# Altium schematic symbol library WE-LQS.SchLib: 214 symbols (part 1 of 4)
Pins are listed as number, name and electrical type; pins without a type are passive.

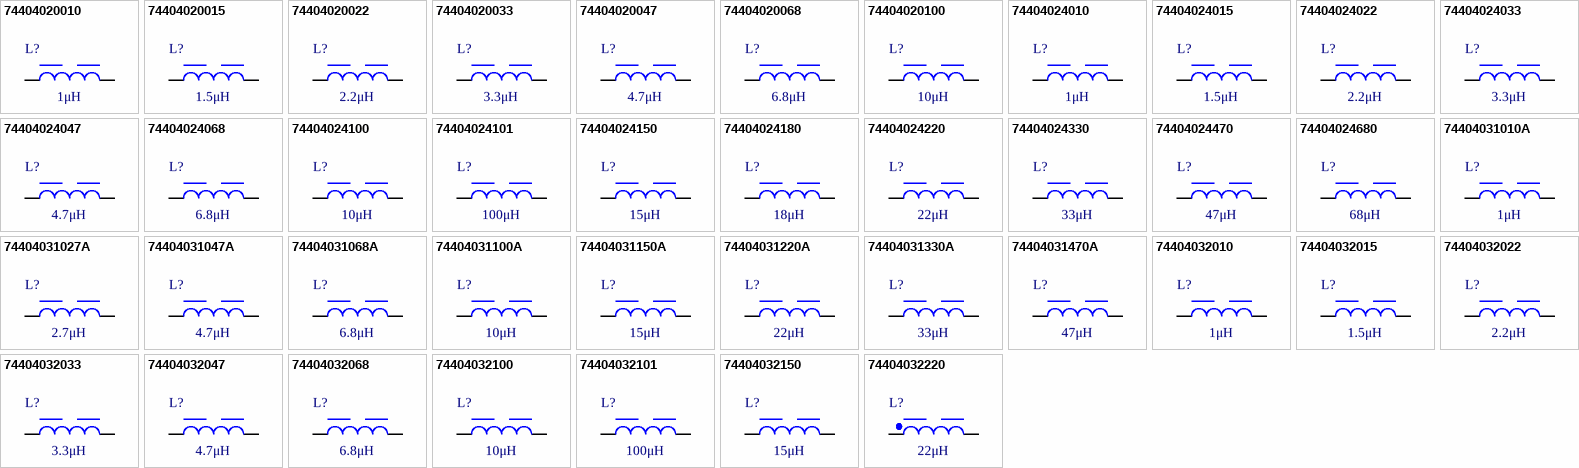
[diagram p0: symbols 74404020010 to 74404032220]

## 74404020010
designator L?, comment 1μH
WE-LQS SMT Power Inductor, size 2010, 1μH, 0.094Ω; Manufacturer Part Number: 74404020010; Manufacturer: Wurth Elektronik; Case/Size Code: 2010; Rated Current: 1.5A; Saturation Current: 2A; Self Resonant Frequency: 177MHz; Category: Power Inductors; Match Code: WE-LQS; ComponentLink1Description: Website Link; ComponentLink1URL: https://www.we-online.com/redexpert/article/74404020010?ad; ComponentLink2Description: Datasheet Link; ComponentLink2URL: https://www.we-online.com/redexpert/spec/74404020010?ad; Mount: Surface Mount; Min Operating Temperature: -40°C; Max Operating Temperature: 125°C; Packaging: Tape and Reel; Length: 2mm; Width: 1.6mm; Height: 1mm; DC Resistance: 0.094Ω; Inductance: 1μH
footprint WE-LQS_2010
simulation model 2010_74404020010_1u
pins: 1, 2

## 74404020015
designator L?, comment 1.5μH
WE-LQS SMT Power Inductor, size 2010, 1.5μH, 0.147Ω; Manufacturer Part Number: 74404020015; Manufacturer: Wurth Elektronik; Case/Size Code: 2010; Rated Current: 1.2A; Saturation Current: 1.6A; Self Resonant Frequency: 130MHz; Category: Power Inductors; Match Code: WE-LQS; ComponentLink1Description: Website Link; ComponentLink1URL: https://www.we-online.com/redexpert/article/74404020015?ad; ComponentLink2Description: Datasheet Link; ComponentLink2URL: https://www.we-online.com/redexpert/spec/74404020015?ad; Mount: Surface Mount; Min Operating Temperature: -40°C; Max Operating Temperature: 125°C; Packaging: Tape and Reel; Length: 2mm; Width: 1.6mm; Height: 1mm; DC Resistance: 0.147Ω; Inductance: 1.5μH
footprint WE-LQS_2010
simulation model 2010_74404020015_1.5u
pins: 1, 2

## 74404020022
designator L?, comment 2.2μH
WE-LQS SMT Power Inductor, size 2010, 2.2μH, 0.225Ω; Manufacturer Part Number: 74404020022; Manufacturer: Wurth Elektronik; Case/Size Code: 2010; Rated Current: 0.96A; Saturation Current: 1.4A; Self Resonant Frequency: 107MHz; Category: Power Inductors; Match Code: WE-LQS; ComponentLink1Description: Website Link; ComponentLink1URL: https://www.we-online.com/redexpert/article/74404020022?ad; ComponentLink2Description: Datasheet Link; ComponentLink2URL: https://www.we-online.com/redexpert/spec/74404020022?ad; Mount: Surface Mount; Min Operating Temperature: -40°C; Max Operating Temperature: 125°C; Packaging: Tape and Reel; Length: 2mm; Width: 1.6mm; Height: 1mm; DC Resistance: 0.225Ω; Inductance: 2.2μH
footprint WE-LQS_2010
simulation model 2010_74404020022_2.2u
pins: 1, 2

## 74404020033
designator L?, comment 3.3μH
WE-LQS SMT Power Inductor, size 2010, 3.3μH, 0.275Ω; Manufacturer Part Number: 74404020033; Manufacturer: Wurth Elektronik; Case/Size Code: 2010; Rated Current: 0.87A; Saturation Current: 1.1A; Self Resonant Frequency: 78MHz; Category: Power Inductors; Match Code: WE-LQS; ComponentLink1Description: Website Link; ComponentLink1URL: https://www.we-online.com/redexpert/article/74404020033?ad; ComponentLink2Description: Datasheet Link; ComponentLink2URL: https://www.we-online.com/redexpert/spec/74404020033?ad; Mount: Surface Mount; Min Operating Temperature: -40°C; Max Operating Temperature: 125°C; Packaging: Tape and Reel; Length: 2mm; Width: 1.6mm; Height: 1mm; DC Resistance: 0.275Ω; Inductance: 3.3μH
footprint WE-LQS_2010
simulation model 2010_74404020033_3.3u
pins: 1, 2

## 74404020047
designator L?, comment 4.7μH
WE-LQS SMT Power Inductor, size 2010, 4.7μH, 0.41Ω; Manufacturer Part Number: 74404020047; Manufacturer: Wurth Elektronik; Case/Size Code: 2010; Rated Current: 0.72A; Saturation Current: 0.85A; Self Resonant Frequency: 71MHz; Category: Power Inductors; Match Code: WE-LQS; ComponentLink1Description: Website Link; ComponentLink1URL: https://www.we-online.com/redexpert/article/74404020047?ad; ComponentLink2Description: Datasheet Link; ComponentLink2URL: https://www.we-online.com/redexpert/spec/74404020047?ad; Mount: Surface Mount; Min Operating Temperature: -40°C; Max Operating Temperature: 125°C; Packaging: Tape and Reel; Length: 2mm; Width: 1.6mm; Height: 1mm; DC Resistance: 0.41Ω; Inductance: 4.7μH
footprint WE-LQS_2010
simulation model 2010_74404020047_4.7u
pins: 1, 2

## 74404020068
designator L?, comment 6.8μH
WE-LQS SMT Power Inductor, size 2010, 6.8μH, 0.7Ω; Manufacturer Part Number: 74404020068; Manufacturer: Wurth Elektronik; Case/Size Code: 2010; Rated Current: 0.55A; Saturation Current: 0.75A; Self Resonant Frequency: 52MHz; Category: Power Inductors; Match Code: WE-LQS; ComponentLink1Description: Website Link; ComponentLink1URL: https://www.we-online.com/redexpert/article/74404020068?ad; ComponentLink2Description: Datasheet Link; ComponentLink2URL: https://www.we-online.com/redexpert/spec/74404020068?ad; Mount: Surface Mount; Min Operating Temperature: -40°C; Max Operating Temperature: 125°C; Packaging: Tape and Reel; Length: 2mm; Width: 1.6mm; Height: 1mm; DC Resistance: 0.7Ω; Inductance: 6.8μH
footprint WE-LQS_2010
simulation model 2010_74404020068_6.8u
pins: 1, 2

## 74404020100
designator L?, comment 10μH
WE-LQS SMT Power Inductor, size 2010, 10μH, 0.86Ω; Manufacturer Part Number: 74404020100; Manufacturer: Wurth Elektronik; Case/Size Code: 2010; Rated Current: 0.5A; Saturation Current: 0.6A; Self Resonant Frequency: 39MHz; Category: Power Inductors; Match Code: WE-LQS; ComponentLink1Description: Website Link; ComponentLink1URL: https://www.we-online.com/redexpert/article/74404020100?ad; ComponentLink2Description: Datasheet Link; ComponentLink2URL: https://www.we-online.com/redexpert/spec/74404020100?ad; Mount: Surface Mount; Min Operating Temperature: -40°C; Max Operating Temperature: 125°C; Packaging: Tape and Reel; Length: 2mm; Width: 1.6mm; Height: 1mm; DC Resistance: 0.86Ω; Inductance: 10μH
footprint WE-LQS_2010
simulation model 2010_74404020100_10u
pins: 1, 2

## 74404024010
designator L?, comment 1μH
WE-LQS SMT Power Inductor, size 2512, 1μH, 0.036Ω; Manufacturer Part Number: 74404024010; Manufacturer: Wurth Elektronik; Case/Size Code: 2512; Rated Current: 2.3A; Saturation Current: 2.5A; Self Resonant Frequency: 159MHz; Category: Power Inductors; Match Code: WE-LQS; ComponentLink1Description: Website Link; ComponentLink1URL: https://www.we-online.com/redexpert/article/74404024010?ad; ComponentLink2Description: Datasheet Link; ComponentLink2URL: https://www.we-online.com/redexpert/spec/74404024010?ad; Mount: Surface Mount; Min Operating Temperature: -40°C; Max Operating Temperature: 125°C; Packaging: Tape and Reel; Length: 2.5mm; Width: 2mm; Height: 1.2mm; DC Resistance: 0.036Ω; Inductance: 1μH
footprint WE-LQS_2512
simulation model 2512_74404024010_1u
pins: 1, 2

## 74404024015
designator L?, comment 1.5μH
WE-LQS SMT Power Inductor, size 2512, 1.5μH, 0.065Ω; Manufacturer Part Number: 74404024015; Manufacturer: Wurth Elektronik; Case/Size Code: 2512; Rated Current: 1.8A; Saturation Current: 2.2A; Self Resonant Frequency: 104MHz; Category: Power Inductors; Match Code: WE-LQS; ComponentLink1Description: Website Link; ComponentLink1URL: https://www.we-online.com/redexpert/article/74404024015?ad; ComponentLink2Description: Datasheet Link; ComponentLink2URL: https://www.we-online.com/redexpert/spec/74404024015?ad; Mount: Surface Mount; Min Operating Temperature: -40°C; Max Operating Temperature: 125°C; Packaging: Tape and Reel; Length: 2.5mm; Width: 2mm; Height: 1.2mm; DC Resistance: 0.065Ω; Inductance: 1.5μH
footprint WE-LQS_2512
simulation model 2512_74404024015_1.5u
pins: 1, 2

## 74404024022
designator L?, comment 2.2μH
WE-LQS SMT Power Inductor, size 2512, 2.2μH, 0.08Ω; Manufacturer Part Number: 74404024022; Manufacturer: Wurth Elektronik; Case/Size Code: 2512; Rated Current: 1.65A; Saturation Current: 1.9A; Self Resonant Frequency: 83MHz; Category: Power Inductors; Match Code: WE-LQS; ComponentLink1Description: Website Link; ComponentLink1URL: https://www.we-online.com/redexpert/article/74404024022?ad; ComponentLink2Description: Datasheet Link; ComponentLink2URL: https://www.we-online.com/redexpert/spec/74404024022?ad; Mount: Surface Mount; Min Operating Temperature: -40°C; Max Operating Temperature: 125°C; Packaging: Tape and Reel; Length: 2.5mm; Width: 2mm; Height: 1.2mm; DC Resistance: 0.08Ω; Inductance: 2.2μH
footprint WE-LQS_2512
simulation model 2512_74404024022_2.2u
pins: 1, 2

## 74404024033
designator L?, comment 3.3μH
WE-LQS SMT Power Inductor, size 2512, 3.3μH, 0.12Ω; Manufacturer Part Number: 74404024033; Manufacturer: Wurth Elektronik; Case/Size Code: 2512; Rated Current: 1.35A; Saturation Current: 1.5A; Self Resonant Frequency: 66MHz; Category: Power Inductors; Match Code: WE-LQS; ComponentLink1Description: Website Link; ComponentLink1URL: https://www.we-online.com/redexpert/article/74404024033?ad; ComponentLink2Description: Datasheet Link; ComponentLink2URL: https://www.we-online.com/redexpert/spec/74404024033?ad; Mount: Surface Mount; Min Operating Temperature: -40°C; Max Operating Temperature: 125°C; Packaging: Tape and Reel; Length: 2.5mm; Width: 2mm; Height: 1.2mm; DC Resistance: 0.12Ω; Inductance: 3.3μH
footprint WE-LQS_2512
simulation model 2512_74404024033_3.3u
pins: 1, 2

## 74404024047
designator L?, comment 4.7μH
WE-LQS SMT Power Inductor, size 2512, 4.7μH, 0.173Ω; Manufacturer Part Number: 74404024047; Manufacturer: Wurth Elektronik; Case/Size Code: 2512; Rated Current: 1.12A; Saturation Current: 1.2A; Self Resonant Frequency: 52MHz; Category: Power Inductors; Match Code: WE-LQS; ComponentLink1Description: Website Link; ComponentLink1URL: https://www.we-online.com/redexpert/article/74404024047?ad; ComponentLink2Description: Datasheet Link; ComponentLink2URL: https://www.we-online.com/redexpert/spec/74404024047?ad; Mount: Surface Mount; Min Operating Temperature: -40°C; Max Operating Temperature: 125°C; Packaging: Tape and Reel; Length: 2.5mm; Width: 2mm; Height: 1.2mm; DC Resistance: 0.173Ω; Inductance: 4.7μH
footprint WE-LQS_2512
simulation model 2512_74404024047_4.7u
pins: 1, 2

## 74404024068
designator L?, comment 6.8μH
WE-LQS SMT Power Inductor, size 2512, 6.8μH, 0.3Ω; Manufacturer Part Number: 74404024068; Manufacturer: Wurth Elektronik; Case/Size Code: 2512; Rated Current: 0.85A; Saturation Current: 1A; Self Resonant Frequency: 40MHz; Category: Power Inductors; Match Code: WE-LQS; ComponentLink1Description: Website Link; ComponentLink1URL: https://www.we-online.com/redexpert/article/74404024068?ad; ComponentLink2Description: Datasheet Link; ComponentLink2URL: https://www.we-online.com/redexpert/spec/74404024068?ad; Mount: Surface Mount; Min Operating Temperature: -40°C; Max Operating Temperature: 125°C; Packaging: Tape and Reel; Length: 2.5mm; Width: 2mm; Height: 1.2mm; DC Resistance: 0.3Ω; Inductance: 6.8μH
footprint WE-LQS_2512
simulation model 2512_74404024068_6.8u
pins: 1, 2

## 74404024100
designator L?, comment 10μH
WE-LQS SMT Power Inductor, size 2512, 10μH, 0.43Ω; Manufacturer Part Number: 74404024100; Manufacturer: Wurth Elektronik; Case/Size Code: 2512; Rated Current: 0.65A; Saturation Current: 0.8A; Self Resonant Frequency: 30MHz; Category: Power Inductors; Match Code: WE-LQS; ComponentLink1Description: Website Link; ComponentLink1URL: https://www.we-online.com/redexpert/article/74404024100?ad; ComponentLink2Description: Datasheet Link; ComponentLink2URL: https://www.we-online.com/redexpert/spec/74404024100?ad; Mount: Surface Mount; Min Operating Temperature: -40°C; Max Operating Temperature: 125°C; Packaging: Tape and Reel; Length: 2.5mm; Width: 2mm; Height: 1.2mm; DC Resistance: 0.43Ω; Inductance: 10μH
footprint WE-LQS_2512
simulation model 2512_74404024100_10u
pins: 1, 2

## 74404024101
designator L?, comment 100μH
WE-LQS SMT Power Inductor, size 2512, 100μH, 4.5Ω; Manufacturer Part Number: 74404024101; Manufacturer: Wurth Elektronik; Case/Size Code: 2512; Rated Current: 0.21A; Saturation Current: 0.22A; Self Resonant Frequency: 6MHz; Category: Power Inductors; Match Code: WE-LQS; ComponentLink1Description: Website Link; ComponentLink1URL: https://www.we-online.com/redexpert/article/74404024101?ad; ComponentLink2Description: Datasheet Link; ComponentLink2URL: https://www.we-online.com/redexpert/spec/74404024101?ad; Mount: Surface Mount; Min Operating Temperature: -40°C; Max Operating Temperature: 125°C; Packaging: Tape and Reel; Length: 2.5mm; Width: 2mm; Height: 1.2mm; DC Resistance: 4.5Ω; Inductance: 100μH
footprint WE-LQS_2512
pins: 1, 2

## 74404024150
designator L?, comment 15μH
WE-LQS SMT Power Inductor, size 2512, 15μH, 0.82Ω; Manufacturer Part Number: 74404024150; Manufacturer: Wurth Elektronik; Case/Size Code: 2512; Rated Current: 0.47A; Saturation Current: 0.75A; Self Resonant Frequency: 28MHz; Category: Power Inductors; Match Code: WE-LQS; ComponentLink1Description: Website Link; ComponentLink1URL: https://www.we-online.com/redexpert/article/74404024150?ad; ComponentLink2Description: Datasheet Link; ComponentLink2URL: https://www.we-online.com/redexpert/spec/74404024150?ad; Mount: Surface Mount; Min Operating Temperature: -40°C; Max Operating Temperature: 125°C; Packaging: Tape and Reel; Length: 2.5mm; Width: 2mm; Height: 1.2mm; DC Resistance: 0.82Ω; Inductance: 15μH
footprint WE-LQS_2512
simulation model 2512_74404024150_15u
pins: 1, 2

## 74404024180
designator L?, comment 18μH
WE-LQS SMT Power Inductor, size 2512, 18μH, 0.83Ω; Manufacturer Part Number: 74404024180; Manufacturer: Wurth Elektronik; Case/Size Code: 2512; Rated Current: 0.46A; Saturation Current: 0.65A; Self Resonant Frequency: 26MHz; Category: Power Inductors; Match Code: WE-LQS; ComponentLink1Description: Website Link; ComponentLink1URL: https://www.we-online.com/redexpert/article/74404024180?ad; ComponentLink2Description: Datasheet Link; ComponentLink2URL: https://www.we-online.com/redexpert/spec/74404024180?ad; Mount: Surface Mount; Min Operating Temperature: -40°C; Max Operating Temperature: 125°C; Packaging: Tape and Reel; Length: 2.5mm; Width: 2mm; Height: 1.2mm; DC Resistance: 0.83Ω; Inductance: 18μH
footprint WE-LQS_2512
simulation model 2512_74404024180_18u
pins: 1, 2

## 74404024220
designator L?, comment 22μH
WE-LQS SMT Power Inductor, size 2512, 22μH, 0.91Ω; Manufacturer Part Number: 74404024220; Manufacturer: Wurth Elektronik; Case/Size Code: 2512; Rated Current: 0.45A; Saturation Current: 0.55A; Self Resonant Frequency: 22MHz; Category: Power Inductors; Match Code: WE-LQS; ComponentLink1Description: Website Link; ComponentLink1URL: https://www.we-online.com/redexpert/article/74404024220?ad; ComponentLink2Description: Datasheet Link; ComponentLink2URL: https://www.we-online.com/redexpert/spec/74404024220?ad; Mount: Surface Mount; Min Operating Temperature: -40°C; Max Operating Temperature: 125°C; Packaging: Tape and Reel; Length: 2.5mm; Width: 2mm; Height: 1.2mm; DC Resistance: 0.91Ω; Inductance: 22μH
footprint WE-LQS_2512
simulation model 2512_74404024220_22u
pins: 1, 2

## 74404024330
designator L?, comment 33μH
WE-LQS SMT Power Inductor, size 2512, 33μH, 1.53Ω; Manufacturer Part Number: 74404024330; Manufacturer: Wurth Elektronik; Case/Size Code: 2512; Rated Current: 0.35A; Saturation Current: 0.45A; Self Resonant Frequency: 17MHz; Category: Power Inductors; Match Code: WE-LQS; ComponentLink1Description: Website Link; ComponentLink1URL: https://www.we-online.com/redexpert/article/74404024330?ad; ComponentLink2Description: Datasheet Link; ComponentLink2URL: https://www.we-online.com/redexpert/spec/74404024330?ad; Mount: Surface Mount; Min Operating Temperature: -40°C; Max Operating Temperature: 125°C; Packaging: Tape and Reel; Length: 2.5mm; Width: 2mm; Height: 1.2mm; DC Resistance: 1.53Ω; Inductance: 33μH
footprint WE-LQS_2512
simulation model 2512_74404024330_33u
pins: 1, 2

## 74404024470
designator L?, comment 47μH
WE-LQS SMT Power Inductor, size 2512, 47μH, 1.65Ω; Manufacturer Part Number: 74404024470; Manufacturer: Wurth Elektronik; Case/Size Code: 2512; Rated Current: 0.33A; Saturation Current: 0.35A; Self Resonant Frequency: 12MHz; Category: Power Inductors; Match Code: WE-LQS; ComponentLink1Description: Website Link; ComponentLink1URL: https://www.we-online.com/redexpert/article/74404024470?ad; ComponentLink2Description: Datasheet Link; ComponentLink2URL: https://www.we-online.com/redexpert/spec/74404024470?ad; Mount: Surface Mount; Min Operating Temperature: -40°C; Max Operating Temperature: 125°C; Packaging: Tape and Reel; Length: 2.5mm; Width: 2mm; Height: 1.2mm; DC Resistance: 1.65Ω; Inductance: 47μH
footprint WE-LQS_2512
simulation model 2512_74404024470_47u
pins: 1, 2

## 74404024680
designator L?, comment 68μH
WE-LQS SMT Power Inductor, size 2512, 68μH, 2.4Ω; Manufacturer Part Number: 74404024680; Manufacturer: Wurth Elektronik; Case/Size Code: 2512; Rated Current: 0.28A; Saturation Current: 0.3A; Self Resonant Frequency: 8MHz; Category: Power Inductors; Match Code: WE-LQS; ComponentLink1Description: Website Link; ComponentLink1URL: https://www.we-online.com/redexpert/article/74404024680?ad; ComponentLink2Description: Datasheet Link; ComponentLink2URL: https://www.we-online.com/redexpert/spec/74404024680?ad; Mount: Surface Mount; Min Operating Temperature: -40°C; Max Operating Temperature: 125°C; Packaging: Tape and Reel; Length: 2.5mm; Width: 2mm; Height: 1.2mm; DC Resistance: 2.4Ω; Inductance: 68μH
footprint WE-LQS_2512
simulation model 2512_74404024680_68u
pins: 1, 2

## 74404031010A
designator L?, comment 1μH
WE-LQS SMT Power Inductor, size 3012, 1μH, 0.031Ω; Manufacturer Part Number: 74404031010A; Manufacturer: Wurth Elektronik; Case/Size Code: 3012; Rated Current: 2.94A; Saturation Current: 2.04A; Self Resonant Frequency: 210MHz; Category: Power Inductors; Match Code: WE-LQS; ComponentLink1Description: Website Link; ComponentLink1URL: https://www.we-online.com/redexpert/article/74404031010A?ad; ComponentLink2Description: Datasheet Link; ComponentLink2URL: https://www.we-online.com/redexpert/spec/74404031010A?ad; Mount: Surface Mount; Min Operating Temperature: -40°C; Max Operating Temperature: 125°C; Packaging: Tape and Reel; Length: 3mm; Width: 3mm; Height: 1.2mm; DC Resistance: 0.031Ω; Inductance: 1μH
footprint WE-LQS_3012
pins: 1, 2

## 74404031027A
designator L?, comment 2.7μH
WE-LQS SMT Power Inductor, size 3012, 2.7μH, 0.08Ω; Manufacturer Part Number: 74404031027A; Manufacturer: Wurth Elektronik; Case/Size Code: 3012; Rated Current: 1.85A; Saturation Current: 1.66A; Self Resonant Frequency: 121MHz; Category: Power Inductors; Match Code: WE-LQS; ComponentLink1Description: Website Link; ComponentLink1URL: https://www.we-online.com/redexpert/article/74404031027A?ad; ComponentLink2Description: Datasheet Link; ComponentLink2URL: https://www.we-online.com/redexpert/spec/74404031027A?ad; Mount: Surface Mount; Min Operating Temperature: -40°C; Max Operating Temperature: 125°C; Packaging: Tape and Reel; Length: 3mm; Width: 3mm; Height: 1.2mm; DC Resistance: 0.08Ω; Inductance: 2.7μH
footprint WE-LQS_3012
pins: 1, 2

## 74404031047A
designator L?, comment 4.7μH
WE-LQS SMT Power Inductor, size 3012, 4.7μH, 0.139Ω; Manufacturer Part Number: 74404031047A; Manufacturer: Wurth Elektronik; Case/Size Code: 3012; Rated Current: 1.4A; Saturation Current: 1A; Self Resonant Frequency: 95MHz; Category: Power Inductors; Match Code: WE-LQS; ComponentLink1Description: Website Link; ComponentLink1URL: https://www.we-online.com/redexpert/article/74404031047A?ad; ComponentLink2Description: Datasheet Link; ComponentLink2URL: https://www.we-online.com/redexpert/spec/74404031047A?ad; Mount: Surface Mount; Min Operating Temperature: -40°C; Max Operating Temperature: 125°C; Packaging: Tape and Reel; Length: 3mm; Width: 3mm; Height: 1.2mm; DC Resistance: 0.139Ω; Inductance: 4.7μH
footprint WE-LQS_3012
pins: 1, 2

## 74404031068A
designator L?, comment 6.8μH
WE-LQS SMT Power Inductor, size 3012, 6.8μH, 0.164Ω; Manufacturer Part Number: 74404031068A; Manufacturer: Wurth Elektronik; Case/Size Code: 3012; Rated Current: 1.29A; Saturation Current: 0.74A; Self Resonant Frequency: 69MHz; Category: Power Inductors; Match Code: WE-LQS; ComponentLink1Description: Website Link; ComponentLink1URL: https://www.we-online.com/redexpert/article/74404031068A?ad; ComponentLink2Description: Datasheet Link; ComponentLink2URL: https://www.we-online.com/redexpert/spec/74404031068A?ad; Mount: Surface Mount; Min Operating Temperature: -40°C; Max Operating Temperature: 125°C; Packaging: Tape and Reel; Length: 3mm; Width: 3mm; Height: 1.2mm; DC Resistance: 0.164Ω; Inductance: 6.8μH
footprint WE-LQS_3012
pins: 1, 2

## 74404031100A
designator L?, comment 10μH
WE-LQS SMT Power Inductor, size 3012, 10μH, 0.254Ω; Manufacturer Part Number: 74404031100A; Manufacturer: Wurth Elektronik; Case/Size Code: 3012; Rated Current: 1.03A; Saturation Current: 0.58A; Self Resonant Frequency: 58MHz; Category: Power Inductors; Match Code: WE-LQS; ComponentLink1Description: Website Link; ComponentLink1URL: https://www.we-online.com/redexpert/article/74404031100A?ad; ComponentLink2Description: Datasheet Link; ComponentLink2URL: https://www.we-online.com/redexpert/spec/74404031100A?ad; Mount: Surface Mount; Min Operating Temperature: -40°C; Max Operating Temperature: 125°C; Packaging: Tape and Reel; Length: 3mm; Width: 3mm; Height: 1.2mm; DC Resistance: 0.254Ω; Inductance: 10μH
footprint WE-LQS_3012
pins: 1, 2

## 74404031150A
designator L?, comment 15μH
WE-LQS SMT Power Inductor, size 3012, 15μH, 0.403Ω; Manufacturer Part Number: 74404031150A; Manufacturer: Wurth Elektronik; Case/Size Code: 3012; Rated Current: 0.81A; Saturation Current: 0.53A; Self Resonant Frequency: 46MHz; Category: Power Inductors; Match Code: WE-LQS; ComponentLink1Description: Website Link; ComponentLink1URL: https://www.we-online.com/redexpert/article/74404031150A?ad; ComponentLink2Description: Datasheet Link; ComponentLink2URL: https://www.we-online.com/redexpert/spec/74404031150A?ad; Mount: Surface Mount; Min Operating Temperature: -40°C; Max Operating Temperature: 125°C; Packaging: Tape and Reel; Length: 3mm; Width: 3mm; Height: 1.2mm; DC Resistance: 0.403Ω; Inductance: 15μH
footprint WE-LQS_3012
pins: 1, 2

## 74404031220A
designator L?, comment 22μH
WE-LQS SMT Power Inductor, size 3012, 22μH, 0.524Ω; Manufacturer Part Number: 74404031220A; Manufacturer: Wurth Elektronik; Case/Size Code: 3012; Rated Current: 0.74A; Saturation Current: 0.43A; Self Resonant Frequency: 36MHz; Category: Power Inductors; Match Code: WE-LQS; ComponentLink1Description: Website Link; ComponentLink1URL: https://www.we-online.com/redexpert/article/74404031220A?ad; ComponentLink2Description: Datasheet Link; ComponentLink2URL: https://www.we-online.com/redexpert/spec/74404031220A?ad; Mount: Surface Mount; Min Operating Temperature: -40°C; Max Operating Temperature: 125°C; Packaging: Tape and Reel; Length: 3mm; Width: 3mm; Height: 1.2mm; DC Resistance: 0.524Ω; Inductance: 22μH
footprint WE-LQS_3012
pins: 1, 2

## 74404031330A
designator L?, comment 33μH
WE-LQS SMT Power Inductor, size 3012, 33μH, 0.802Ω; Manufacturer Part Number: 74404031330A; Manufacturer: Wurth Elektronik; Case/Size Code: 3012; Rated Current: 0.6A; Saturation Current: 0.35A; Self Resonant Frequency: 29MHz; Category: Power Inductors; Match Code: WE-LQS; ComponentLink1Description: Website Link; ComponentLink1URL: https://www.we-online.com/redexpert/article/74404031330A?ad; ComponentLink2Description: Datasheet Link; ComponentLink2URL: https://www.we-online.com/redexpert/spec/74404031330A?ad; Mount: Surface Mount; Min Operating Temperature: -40°C; Max Operating Temperature: 125°C; Packaging: Tape and Reel; Length: 3mm; Width: 3mm; Height: 1.2mm; DC Resistance: 0.802Ω; Inductance: 33μH
footprint WE-LQS_3012
pins: 1, 2

## 74404031470A
designator L?, comment 47μH
WE-LQS SMT Power Inductor, size 3012, 47μH, 1.253Ω; Manufacturer Part Number: 74404031470A; Manufacturer: Wurth Elektronik; Case/Size Code: 3012; Rated Current: 0.48A; Saturation Current: 0.28A; Self Resonant Frequency: 25MHz; Category: Power Inductors; Match Code: WE-LQS; ComponentLink1Description: Website Link; ComponentLink1URL: https://www.we-online.com/redexpert/article/74404031470A?ad; ComponentLink2Description: Datasheet Link; ComponentLink2URL: https://www.we-online.com/redexpert/spec/74404031470A?ad; Mount: Surface Mount; Min Operating Temperature: -40°C; Max Operating Temperature: 125°C; Packaging: Tape and Reel; Length: 3mm; Width: 3mm; Height: 1.2mm; DC Resistance: 1.253Ω; Inductance: 47μH
footprint WE-LQS_3012
pins: 1, 2

## 74404032010
designator L?, comment 1μH
WE-LQS SMT Power Inductor, size 3015, 1μH, 0.033Ω; Manufacturer Part Number: 74404032010; Manufacturer: Wurth Elektronik; Case/Size Code: 3015; Rated Current: 2.2A; Saturation Current: 3A; Self Resonant Frequency: 138MHz; Category: Power Inductors; Match Code: WE-LQS; ComponentLink1Description: Website Link; ComponentLink1URL: https://www.we-online.com/redexpert/article/74404032010?ad; ComponentLink2Description: Datasheet Link; ComponentLink2URL: https://www.we-online.com/redexpert/spec/74404032010?ad; Mount: Surface Mount; Min Operating Temperature: -40°C; Max Operating Temperature: 125°C; Packaging: Tape and Reel; Length: 3mm; Width: 3mm; Height: 1.5mm; DC Resistance: 0.033Ω; Inductance: 1μH
footprint WE-LQS_3015
simulation model 3015_74404032010_1u
pins: 1, 2

## 74404032015
designator L?, comment 1.5μH
WE-LQS SMT Power Inductor, size 3015, 1.5μH, 0.04Ω; Manufacturer Part Number: 74404032015; Manufacturer: Wurth Elektronik; Case/Size Code: 3015; Rated Current: 2A; Saturation Current: 2.3A; Self Resonant Frequency: 100MHz; Category: Power Inductors; Match Code: WE-LQS; ComponentLink1Description: Website Link; ComponentLink1URL: https://www.we-online.com/redexpert/article/74404032015?ad; ComponentLink2Description: Datasheet Link; ComponentLink2URL: https://www.we-online.com/redexpert/spec/74404032015?ad; Mount: Surface Mount; Min Operating Temperature: -40°C; Max Operating Temperature: 125°C; Packaging: Tape and Reel; Length: 3mm; Width: 3mm; Height: 1.5mm; DC Resistance: 0.04Ω; Inductance: 1.5μH
footprint WE-LQS_3015
simulation model 3015_74404032015_1.5u
pins: 1, 2

## 74404032022
designator L?, comment 2.2μH
WE-LQS SMT Power Inductor, size 3015, 2.2μH, 0.05Ω; Manufacturer Part Number: 74404032022; Manufacturer: Wurth Elektronik; Case/Size Code: 3015; Rated Current: 1.8A; Saturation Current: 1.7A; Self Resonant Frequency: 85MHz; Category: Power Inductors; Match Code: WE-LQS; ComponentLink1Description: Website Link; ComponentLink1URL: https://www.we-online.com/redexpert/article/74404032022?ad; ComponentLink2Description: Datasheet Link; ComponentLink2URL: https://www.we-online.com/redexpert/spec/74404032022?ad; Mount: Surface Mount; Min Operating Temperature: -40°C; Max Operating Temperature: 125°C; Packaging: Tape and Reel; Length: 3mm; Width: 3mm; Height: 1.5mm; DC Resistance: 0.05Ω; Inductance: 2.2μH
footprint WE-LQS_3015
simulation model 3015_74404032022_2.2u
pins: 1, 2

## 74404032033
designator L?, comment 3.3μH
WE-LQS SMT Power Inductor, size 3015, 3.3μH, 0.07Ω; Manufacturer Part Number: 74404032033; Manufacturer: Wurth Elektronik; Case/Size Code: 3015; Rated Current: 1.5A; Self Resonant Frequency: 72MHz; Category: Power Inductors; Match Code: WE-LQS; ComponentLink1Description: Website Link; ComponentLink1URL: https://www.we-online.com/redexpert/article/74404032033?ad; ComponentLink2Description: Datasheet Link; ComponentLink2URL: https://www.we-online.com/redexpert/spec/74404032033?ad; Mount: Surface Mount; Min Operating Temperature: -40°C; Max Operating Temperature: 125°C; Packaging: Tape and Reel; Length: 3mm; Width: 3mm; Height: 1.5mm; DC Resistance: 0.07Ω; Inductance: 3.3μH; Saturation Current: 1.5A
footprint WE-LQS_3015
simulation model 3015_74404032033_3.3u
pins: 1, 2

## 74404032047
designator L?, comment 4.7μH
WE-LQS SMT Power Inductor, size 3015, 4.7μH, 0.096Ω; Manufacturer Part Number: 74404032047; Manufacturer: Wurth Elektronik; Case/Size Code: 3015; Rated Current: 1.3A; Saturation Current: 1.2A; Self Resonant Frequency: 56MHz; Category: Power Inductors; Match Code: WE-LQS; ComponentLink1Description: Website Link; ComponentLink1URL: https://www.we-online.com/redexpert/article/74404032047?ad; ComponentLink2Description: Datasheet Link; ComponentLink2URL: https://www.we-online.com/redexpert/spec/74404032047?ad; Mount: Surface Mount; Min Operating Temperature: -40°C; Max Operating Temperature: 125°C; Packaging: Tape and Reel; Length: 3mm; Width: 3mm; Height: 1.5mm; DC Resistance: 0.096Ω; Inductance: 4.7μH
footprint WE-LQS_3015
simulation model 3015_74404032047_4.7u
pins: 1, 2

## 74404032068
designator L?, comment 6.8μH
WE-LQS SMT Power Inductor, size 3015, 6.8μH, 0.12Ω; Manufacturer Part Number: 74404032068; Manufacturer: Wurth Elektronik; Case/Size Code: 3015; Rated Current: 1.16A; Saturation Current: 0.94A; Self Resonant Frequency: 45MHz; Category: Power Inductors; Match Code: WE-LQS; ComponentLink1Description: Website Link; ComponentLink1URL: https://www.we-online.com/redexpert/article/74404032068?ad; ComponentLink2Description: Datasheet Link; ComponentLink2URL: https://www.we-online.com/redexpert/spec/74404032068?ad; Mount: Surface Mount; Min Operating Temperature: -40°C; Max Operating Temperature: 125°C; Packaging: Tape and Reel; Length: 3mm; Width: 3mm; Height: 1.5mm; DC Resistance: 0.12Ω; Inductance: 6.8μH
footprint WE-LQS_3015
simulation model 3015_74404032068_6.8u
pins: 1, 2

## 74404032100
designator L?, comment 10μH
WE-LQS SMT Power Inductor, size 3015, 10μH, 0.23Ω; Manufacturer Part Number: 74404032100; Manufacturer: Wurth Elektronik; Case/Size Code: 3015; Rated Current: 0.84A; Saturation Current: 0.87A; Self Resonant Frequency: 37MHz; Category: Power Inductors; Match Code: WE-LQS; ComponentLink1Description: Website Link; ComponentLink1URL: https://www.we-online.com/redexpert/article/74404032100?ad; ComponentLink2Description: Datasheet Link; ComponentLink2URL: https://www.we-online.com/redexpert/spec/74404032100?ad; Mount: Surface Mount; Min Operating Temperature: -40°C; Max Operating Temperature: 125°C; Packaging: Tape and Reel; Length: 3mm; Width: 3mm; Height: 1.5mm; DC Resistance: 0.23Ω; Inductance: 10μH
footprint WE-LQS_3015
simulation model 3015_74404032100_10u
pins: 1, 2

## 74404032101
designator L?, comment 100μH
WE-LQS SMT Power Inductor, size 3015, 100μH, 1.9Ω; Manufacturer Part Number: 74404032101; Manufacturer: Wurth Elektronik; Case/Size Code: 3015; Rated Current: 0.3A; Saturation Current: 0.26A; Self Resonant Frequency: 7.5MHz; Category: Power Inductors; Match Code: WE-LQS; ComponentLink1Description: Website Link; ComponentLink1URL: https://www.we-online.com/redexpert/article/74404032101?ad; ComponentLink2Description: Datasheet Link; ComponentLink2URL: https://www.we-online.com/redexpert/spec/74404032101?ad; Mount: Surface Mount; Min Operating Temperature: -40°C; Max Operating Temperature: 125°C; Packaging: Tape and Reel; Length: 3mm; Width: 3mm; Height: 1.5mm; DC Resistance: 1.9Ω; Inductance: 100μH
footprint WE-LQS_3015
simulation model 3015_74404032101_100u
pins: 1, 2

## 74404032150
designator L?, comment 15μH
WE-LQS SMT Power Inductor, size 3015, 15μH, 0.3Ω; Manufacturer Part Number: 74404032150; Manufacturer: Wurth Elektronik; Case/Size Code: 3015; Rated Current: 0.73A; Saturation Current: 0.8A; Self Resonant Frequency: 29MHz; Category: Power Inductors; Match Code: WE-LQS; ComponentLink1Description: Website Link; ComponentLink1URL: https://www.we-online.com/redexpert/article/74404032150?ad; ComponentLink2Description: Datasheet Link; ComponentLink2URL: https://www.we-online.com/redexpert/spec/74404032150?ad; Mount: Surface Mount; Min Operating Temperature: -40°C; Max Operating Temperature: 125°C; Packaging: Tape and Reel; Length: 3mm; Width: 3mm; Height: 1.5mm; DC Resistance: 0.3Ω; Inductance: 15μH
footprint WE-LQS_3015
simulation model 3015_74404032150_15u
pins: 1, 2

## 74404032220
designator L?, comment 22μH
WE-LQS SMT Power Inductor, size 3015, 22μH, 0.45Ω; Manufacturer Part Number: 74404032220; Manufacturer: Wurth Elektronik; Case/Size Code: 3015; Rated Current: 0.6A; Self Resonant Frequency: 25MHz; Category: Power Inductors; Match Code: WE-LQS; ComponentLink1Description: Website Link; ComponentLink1URL: https://www.we-online.com/redexpert/article/74404032220?ad; ComponentLink2Description: Datasheet Link; ComponentLink2URL: https://www.we-online.com/redexpert/spec/74404032220?ad; Mount: Surface Mount; Min Operating Temperature: -40°C; Max Operating Temperature: 125°C; Packaging: Tape and Reel; Length: 3mm; Width: 3mm; Height: 1.5mm; DC Resistance: 0.45Ω; Inductance: 22μH; Saturation Current: 0.6A
footprint WE-LQS_3015_Dotted
simulation model 3015_74404032220_22u
pins: 1, 2

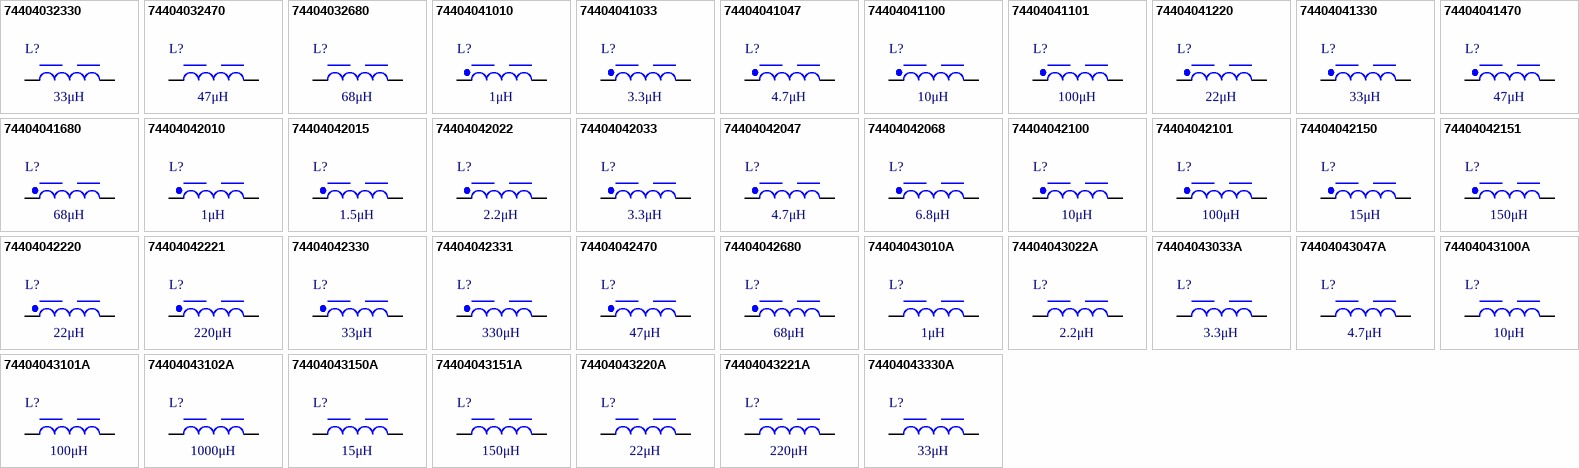
[diagram p1: symbols 74404032330 to 74404043330A]

## 74404032330
designator L?, comment 33μH
WE-LQS SMT Power Inductor, size 3015, 33μH, 0.911Ω; Manufacturer Part Number: 74404032330; Manufacturer: Wurth Elektronik; Case/Size Code: 3015; Rated Current: 0.5A; Saturation Current: 0.54A; Self Resonant Frequency: 17MHz; Category: Power Inductors; Match Code: WE-LQS; ComponentLink1Description: Website Link; ComponentLink1URL: https://www.we-online.com/redexpert/article/74404032330?ad; ComponentLink2Description: Datasheet Link; ComponentLink2URL: https://www.we-online.com/redexpert/spec/74404032330?ad; Mount: Surface Mount; Min Operating Temperature: -40°C; Max Operating Temperature: 125°C; Packaging: Tape and Reel; Length: 3mm; Width: 3mm; Height: 1.5mm; DC Resistance: 0.911Ω; Inductance: 33μH
footprint WE-LQS_3015
simulation model 3015_74404032330_33u
pins: 1, 2

## 74404032470
designator L?, comment 47μH
WE-LQS SMT Power Inductor, size 3015, 47μH, 1.05Ω; Manufacturer Part Number: 74404032470; Manufacturer: Wurth Elektronik; Case/Size Code: 3015; Rated Current: 0.4A; Saturation Current: 0.41A; Self Resonant Frequency: 15MHz; Category: Power Inductors; Match Code: WE-LQS; ComponentLink1Description: Website Link; ComponentLink1URL: https://www.we-online.com/redexpert/article/74404032470?ad; ComponentLink2Description: Datasheet Link; ComponentLink2URL: https://www.we-online.com/redexpert/spec/74404032470?ad; Mount: Surface Mount; Min Operating Temperature: -40°C; Max Operating Temperature: 125°C; Packaging: Tape and Reel; Length: 3mm; Width: 3mm; Height: 1.5mm; DC Resistance: 1.05Ω; Inductance: 47μH
footprint WE-LQS_3015
simulation model 3015_74404032470_47u
pins: 1, 2

## 74404032680
designator L?, comment 68μH
WE-LQS SMT Power Inductor, size 3015, 68μH, 1.6Ω; Manufacturer Part Number: 74404032680; Manufacturer: Wurth Elektronik; Case/Size Code: 3015; Rated Current: 0.34A; Saturation Current: 0.35A; Self Resonant Frequency: 10MHz; Category: Power Inductors; Match Code: WE-LQS; ComponentLink1Description: Website Link; ComponentLink1URL: https://www.we-online.com/redexpert/article/74404032680?ad; ComponentLink2Description: Datasheet Link; ComponentLink2URL: https://www.we-online.com/redexpert/spec/74404032680?ad; Mount: Surface Mount; Min Operating Temperature: -40°C; Max Operating Temperature: 125°C; Packaging: Tape and Reel; Length: 3mm; Width: 3mm; Height: 1.5mm; DC Resistance: 1.6Ω; Inductance: 68μH
footprint WE-LQS_3015
simulation model 3015_74404032680_68u
pins: 1, 2

## 74404041010
designator L?, comment 1μH
WE-LQS SMT Power Inductor, size 4012, 1μH, 0.041Ω; Manufacturer Part Number: 74404041010; Manufacturer: Wurth Elektronik; Case/Size Code: 4012; Rated Current: 2.52A; Saturation Current: 3.35A; Self Resonant Frequency: 142MHz; Category: Power Inductors; Match Code: WE-LQS; ComponentLink1Description: Website Link; ComponentLink1URL: https://www.we-online.com/redexpert/article/74404041010?ad; ComponentLink2Description: Datasheet Link; ComponentLink2URL: https://www.we-online.com/redexpert/spec/74404041010?ad; Mount: Surface Mount; Min Operating Temperature: -40°C; Max Operating Temperature: 125°C; Packaging: Tape and Reel; Length: 4mm; Width: 4mm; Height: 1.2mm; DC Resistance: 0.041Ω; Inductance: 1μH
footprint WE-LQS_4012
simulation model 4012_74404041010_1u
pins: 1, 2

## 74404041033
designator L?, comment 3.3μH
WE-LQS SMT Power Inductor, size 4012, 3.3μH, 0.069Ω; Manufacturer Part Number: 74404041033; Manufacturer: Wurth Elektronik; Case/Size Code: 4012; Rated Current: 1.75A; Saturation Current: 1.8A; Self Resonant Frequency: 78MHz; Category: Power Inductors; Match Code: WE-LQS; ComponentLink1Description: Website Link; ComponentLink1URL: https://www.we-online.com/redexpert/article/74404041033?ad; ComponentLink2Description: Datasheet Link; ComponentLink2URL: https://www.we-online.com/redexpert/spec/74404041033?ad; Mount: Surface Mount; Min Operating Temperature: -40°C; Max Operating Temperature: 125°C; Packaging: Tape and Reel; Length: 4mm; Width: 4mm; Height: 1.2mm; DC Resistance: 0.069Ω; Inductance: 3.3μH
footprint WE-LQS_4012
simulation model 4012_74404041033_3.3u
pins: 1, 2

## 74404041047
designator L?, comment 4.7μH
WE-LQS SMT Power Inductor, size 4012, 4.7μH, 0.091Ω; Manufacturer Part Number: 74404041047; Manufacturer: Wurth Elektronik; Case/Size Code: 4012; Rated Current: 1.55A; Saturation Current: 1.3A; Self Resonant Frequency: 60MHz; Category: Power Inductors; Match Code: WE-LQS; ComponentLink1Description: Website Link; ComponentLink1URL: https://www.we-online.com/redexpert/article/74404041047?ad; ComponentLink2Description: Datasheet Link; ComponentLink2URL: https://www.we-online.com/redexpert/spec/74404041047?ad; Mount: Surface Mount; Min Operating Temperature: -40°C; Max Operating Temperature: 125°C; Packaging: Tape and Reel; Length: 4mm; Width: 4mm; Height: 1.2mm; DC Resistance: 0.091Ω; Inductance: 4.7μH
footprint WE-LQS_4012
simulation model 4012_74404041047_4.7u
pins: 1, 2

## 74404041100
designator L?, comment 10μH
WE-LQS SMT Power Inductor, size 4012, 10μH, 0.168Ω; Manufacturer Part Number: 74404041100; Manufacturer: Wurth Elektronik; Case/Size Code: 4012; Rated Current: 1.32A; Saturation Current: 1A; Self Resonant Frequency: 38MHz; Category: Power Inductors; Match Code: WE-LQS; ComponentLink1Description: Website Link; ComponentLink1URL: https://www.we-online.com/redexpert/article/74404041100?ad; ComponentLink2Description: Datasheet Link; ComponentLink2URL: https://www.we-online.com/redexpert/spec/74404041100?ad; Mount: Surface Mount; Min Operating Temperature: -40°C; Max Operating Temperature: 125°C; Packaging: Tape and Reel; Length: 4mm; Width: 4mm; Height: 1.2mm; DC Resistance: 0.168Ω; Inductance: 10μH
footprint WE-LQS_4012
simulation model 4012_74404041100_10u
pins: 1, 2

## 74404041101
designator L?, comment 100μH
WE-LQS SMT Power Inductor, size 4012, 100μH, 1.697Ω; Manufacturer Part Number: 74404041101; Manufacturer: Wurth Elektronik; Case/Size Code: 4012; Rated Current: 0.43A; Saturation Current: 0.3A; Self Resonant Frequency: 10MHz; Category: Power Inductors; Match Code: WE-LQS; ComponentLink1Description: Website Link; ComponentLink1URL: https://www.we-online.com/redexpert/article/74404041101?ad; ComponentLink2Description: Datasheet Link; ComponentLink2URL: https://www.we-online.com/redexpert/spec/74404041101?ad; Mount: Surface Mount; Min Operating Temperature: -40°C; Max Operating Temperature: 125°C; Packaging: Tape and Reel; Length: 4mm; Width: 4mm; Height: 1.2mm; DC Resistance: 1.697Ω; Inductance: 100μH
footprint WE-LQS_4012
simulation model 4012_74404041101_100u
pins: 1, 2

## 74404041220
designator L?, comment 22μH
WE-LQS SMT Power Inductor, size 4012, 22μH, 0.38Ω; Manufacturer Part Number: 74404041220; Manufacturer: Wurth Elektronik; Case/Size Code: 4012; Rated Current: 0.95A; Saturation Current: 0.64A; Self Resonant Frequency: 22MHz; Category: Power Inductors; Match Code: WE-LQS; ComponentLink1Description: Website Link; ComponentLink1URL: https://www.we-online.com/redexpert/article/74404041220?ad; ComponentLink2Description: Datasheet Link; ComponentLink2URL: https://www.we-online.com/redexpert/spec/74404041220?ad; Mount: Surface Mount; Min Operating Temperature: -40°C; Max Operating Temperature: 125°C; Packaging: Tape and Reel; Length: 4mm; Width: 4mm; Height: 1.2mm; DC Resistance: 0.38Ω; Inductance: 22μH
footprint WE-LQS_4012
simulation model 4012_74404041220_22u
pins: 1, 2

## 74404041330
designator L?, comment 33μH
WE-LQS SMT Power Inductor, size 4012, 33μH, 0.628Ω; Manufacturer Part Number: 74404041330; Manufacturer: Wurth Elektronik; Case/Size Code: 4012; Rated Current: 0.65A; Saturation Current: 0.6A; Self Resonant Frequency: 18MHz; Category: Power Inductors; Match Code: WE-LQS; ComponentLink1Description: Website Link; ComponentLink1URL: https://www.we-online.com/redexpert/article/74404041330?ad; ComponentLink2Description: Datasheet Link; ComponentLink2URL: https://www.we-online.com/redexpert/spec/74404041330?ad; Mount: Surface Mount; Min Operating Temperature: -40°C; Max Operating Temperature: 125°C; Packaging: Tape and Reel; Length: 4mm; Width: 4mm; Height: 1.2mm; DC Resistance: 0.628Ω; Inductance: 33μH
footprint WE-LQS_4012
simulation model 4012_74404041330_33u
pins: 1, 2

## 74404041470
designator L?, comment 47μH
WE-LQS SMT Power Inductor, size 4012, 47μH, 0.987Ω; Manufacturer Part Number: 74404041470; Manufacturer: Wurth Elektronik; Case/Size Code: 4012; Rated Current: 0.56A; Saturation Current: 0.55A; Self Resonant Frequency: 17MHz; Category: Power Inductors; Match Code: WE-LQS; ComponentLink1Description: Website Link; ComponentLink1URL: https://www.we-online.com/redexpert/article/74404041470?ad; ComponentLink2Description: Datasheet Link; ComponentLink2URL: https://www.we-online.com/redexpert/spec/74404041470?ad; Mount: Surface Mount; Min Operating Temperature: -40°C; Max Operating Temperature: 125°C; Packaging: Tape and Reel; Length: 4mm; Width: 4mm; Height: 1.2mm; DC Resistance: 0.987Ω; Inductance: 47μH
footprint WE-LQS_4012
simulation model 4012_74404041470_47u
pins: 1, 2

## 74404041680
designator L?, comment 68μH
WE-LQS SMT Power Inductor, size 4012, 68μH, 1.495Ω; Manufacturer Part Number: 74404041680; Manufacturer: Wurth Elektronik; Case/Size Code: 4012; Rated Current: 0.45A; Saturation Current: 0.48A; Self Resonant Frequency: 13MHz; Category: Power Inductors; Match Code: WE-LQS; ComponentLink1Description: Website Link; ComponentLink1URL: https://www.we-online.com/redexpert/article/74404041680?ad; ComponentLink2Description: Datasheet Link; ComponentLink2URL: https://www.we-online.com/redexpert/spec/74404041680?ad; Mount: Surface Mount; Min Operating Temperature: -40°C; Max Operating Temperature: 125°C; Packaging: Tape and Reel; Length: 4mm; Width: 4mm; Height: 1.2mm; DC Resistance: 1.495Ω; Inductance: 68μH
footprint WE-LQS_4012
simulation model 4012_74404041680_68u
pins: 1, 2

## 74404042010
designator L?, comment 1μH
WE-LQS SMT Power Inductor, size 4018, 1μH, 0.027Ω; Manufacturer Part Number: 74404042010; Manufacturer: Wurth Elektronik; Case/Size Code: 4018; Rated Current: 3.2A; Saturation Current: 4.8A; Self Resonant Frequency: 120MHz; Category: Power Inductors; Match Code: WE-LQS; ComponentLink1Description: Website Link; ComponentLink1URL: https://www.we-online.com/redexpert/article/74404042010?ad; ComponentLink2Description: Datasheet Link; ComponentLink2URL: https://www.we-online.com/redexpert/spec/74404042010?ad; Mount: Surface Mount; Min Operating Temperature: -40°C; Max Operating Temperature: 125°C; Packaging: Tape and Reel; Length: 4mm; Width: 4mm; Height: 1.8mm; DC Resistance: 0.027Ω; Inductance: 1μH
footprint WE-LQS_4018
simulation model 4018_74404042010_1u
pins: 1, 2

## 74404042015
designator L?, comment 1.5μH
WE-LQS SMT Power Inductor, size 4018, 1.5μH, 0.031Ω; Manufacturer Part Number: 74404042015; Manufacturer: Wurth Elektronik; Case/Size Code: 4018; Rated Current: 2.95A; Saturation Current: 4.3A; Self Resonant Frequency: 100MHz; Category: Power Inductors; Match Code: WE-LQS; ComponentLink1Description: Website Link; ComponentLink1URL: https://www.we-online.com/redexpert/article/74404042015?ad; ComponentLink2Description: Datasheet Link; ComponentLink2URL: https://www.we-online.com/redexpert/spec/74404042015?ad; Mount: Surface Mount; Min Operating Temperature: -40°C; Max Operating Temperature: 125°C; Packaging: Tape and Reel; Length: 4mm; Width: 4mm; Height: 1.8mm; DC Resistance: 0.031Ω; Inductance: 1.5μH
footprint WE-LQS_4018
simulation model 4018_74404042015_1.5u
pins: 1, 2

## 74404042022
designator L?, comment 2.2μH
WE-LQS SMT Power Inductor, size 4018, 2.2μH, 0.042Ω; Manufacturer Part Number: 74404042022; Manufacturer: Wurth Elektronik; Case/Size Code: 4018; Rated Current: 2.2A; Saturation Current: 3.4A; Self Resonant Frequency: 70MHz; Category: Power Inductors; Match Code: WE-LQS; ComponentLink1Description: Website Link; ComponentLink1URL: https://www.we-online.com/redexpert/article/74404042022?ad; ComponentLink2Description: Datasheet Link; ComponentLink2URL: https://www.we-online.com/redexpert/spec/74404042022?ad; Mount: Surface Mount; Min Operating Temperature: -40°C; Max Operating Temperature: 125°C; Packaging: Tape and Reel; Length: 4mm; Width: 4mm; Height: 1.8mm; DC Resistance: 0.042Ω; Inductance: 2.2μH
footprint WE-LQS_4018
simulation model 4018_74404042022_2.2u
pins: 1, 2

## 74404042033
designator L?, comment 3.3μH
WE-LQS SMT Power Inductor, size 4018, 3.3μH, 0.055Ω; Manufacturer Part Number: 74404042033; Manufacturer: Wurth Elektronik; Case/Size Code: 4018; Rated Current: 2A; Saturation Current: 2.9A; Self Resonant Frequency: 56MHz; Category: Power Inductors; Match Code: WE-LQS; ComponentLink1Description: Website Link; ComponentLink1URL: https://www.we-online.com/redexpert/article/74404042033?ad; ComponentLink2Description: Datasheet Link; ComponentLink2URL: https://www.we-online.com/redexpert/spec/74404042033?ad; Mount: Surface Mount; Min Operating Temperature: -40°C; Max Operating Temperature: 125°C; Packaging: Tape and Reel; Length: 4mm; Width: 4mm; Height: 1.8mm; DC Resistance: 0.055Ω; Inductance: 3.3μH
footprint WE-LQS_4018
simulation model 4018_74404042033_3.3u
pins: 1, 2

## 74404042047
designator L?, comment 4.7μH
WE-LQS SMT Power Inductor, size 4018, 4.7μH, 0.07Ω; Manufacturer Part Number: 74404042047; Manufacturer: Wurth Elektronik; Case/Size Code: 4018; Rated Current: 1.7A; Saturation Current: 2.2A; Self Resonant Frequency: 48MHz; Category: Power Inductors; Match Code: WE-LQS; ComponentLink1Description: Website Link; ComponentLink1URL: https://www.we-online.com/redexpert/article/74404042047?ad; ComponentLink2Description: Datasheet Link; ComponentLink2URL: https://www.we-online.com/redexpert/spec/74404042047?ad; Mount: Surface Mount; Min Operating Temperature: -40°C; Max Operating Temperature: 125°C; Packaging: Tape and Reel; Length: 4mm; Width: 4mm; Height: 1.8mm; DC Resistance: 0.07Ω; Inductance: 4.7μH
footprint WE-LQS_4018
simulation model 4018_74404042047_4.7u
pins: 1, 2

## 74404042068
designator L?, comment 6.8μH
WE-LQS SMT Power Inductor, size 4018, 6.8μH, 0.098Ω; Manufacturer Part Number: 74404042068; Manufacturer: Wurth Elektronik; Case/Size Code: 4018; Rated Current: 1.45A; Saturation Current: 2A; Self Resonant Frequency: 39MHz; Category: Power Inductors; Match Code: WE-LQS; ComponentLink1Description: Website Link; ComponentLink1URL: https://www.we-online.com/redexpert/article/74404042068?ad; ComponentLink2Description: Datasheet Link; ComponentLink2URL: https://www.we-online.com/redexpert/spec/74404042068?ad; Mount: Surface Mount; Min Operating Temperature: -40°C; Max Operating Temperature: 125°C; Packaging: Tape and Reel; Length: 4mm; Width: 4mm; Height: 1.8mm; DC Resistance: 0.098Ω; Inductance: 6.8μH
footprint WE-LQS_4018
simulation model 4018_74404042068_6.8u
pins: 1, 2

## 74404042100
designator L?, comment 10μH
WE-LQS SMT Power Inductor, size 4018, 10μH, 0.15Ω; Manufacturer Part Number: 74404042100; Manufacturer: Wurth Elektronik; Case/Size Code: 4018; Rated Current: 1.2A; Saturation Current: 1.7A; Self Resonant Frequency: 28MHz; Category: Power Inductors; Match Code: WE-LQS; ComponentLink1Description: Website Link; ComponentLink1URL: https://www.we-online.com/redexpert/article/74404042100?ad; ComponentLink2Description: Datasheet Link; ComponentLink2URL: https://www.we-online.com/redexpert/spec/74404042100?ad; Mount: Surface Mount; Min Operating Temperature: -40°C; Max Operating Temperature: 125°C; Packaging: Tape and Reel; Length: 4mm; Width: 4mm; Height: 1.8mm; DC Resistance: 0.15Ω; Inductance: 10μH
footprint WE-LQS_4018
simulation model 4018_74404042100_10u
pins: 1, 2

## 74404042101
designator L?, comment 100μH
WE-LQS SMT Power Inductor, size 4018, 100μH, 1.43Ω; Manufacturer Part Number: 74404042101; Manufacturer: Wurth Elektronik; Case/Size Code: 4018; Rated Current: 0.42A; Saturation Current: 0.56A; Self Resonant Frequency: 8MHz; Category: Power Inductors; Match Code: WE-LQS; ComponentLink1Description: Website Link; ComponentLink1URL: https://www.we-online.com/redexpert/article/74404042101?ad; ComponentLink2Description: Datasheet Link; ComponentLink2URL: https://www.we-online.com/redexpert/spec/74404042101?ad; Mount: Surface Mount; Min Operating Temperature: -40°C; Max Operating Temperature: 125°C; Packaging: Tape and Reel; Length: 4mm; Width: 4mm; Height: 1.8mm; DC Resistance: 1.43Ω; Inductance: 100μH
footprint WE-LQS_4018
simulation model 4018_74404042101_100u
pins: 1, 2